# EAGLE library part MC3413 (library lib)
Accelerometer Accelerometers 2x2 High Resolution Gen 3
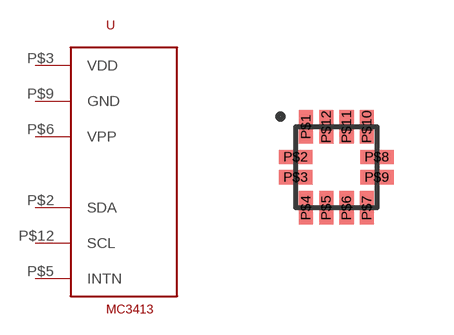
[diagram p3: symbol with the pads of VLGA-12; footprint VLGA-12]

Designator prefix -

## MC3413 (LINK: https://eu.mouser.com/ProductDetail/MEMSIC/MC3413?qs=8TPl4Kup7ocS%2FG2RQqpI2Q%3D%3D; MPN: MC3413; SUPPLIER: Mouser)  [VLGA-12]
P$2  SDA
P$3  VDD  pwr
P$5  INTN  out
P$6  VPP  in
P$9  GND  pwr
P$12  SCL  in

## Footprint VLGA-12 (pad centres in mm)
smd 0.356 x 0.838: P$1 -0.762,1.016; P$4 -0.762,-1.016; P$5 -0.254,-1.016; P$6 0.254,-1.016; P$7 0.762,-1.016; P$10 0.762,1.016; P$11 0.254,1.016; P$12 -0.254,1.016
smd 0.838 x 0.356: P$2 -1.016,0.254; P$3 -1.016,-0.254; P$8 1.016,0.254; P$9 1.016,-0.254